# Altium schematic symbol library BAT54AWT1G.Schlib: 1 symbol
Pins are listed as number, name and electrical type; pins without a type are passive.

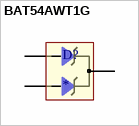
[diagram p0: symbol BAT54AWT1G]

## BAT54AWT1G
designator D?
IC SCHOTTKY RECTIFIER, 200mA, 30V, SOT-323
pins: 1, 2, 3